# Altium integrated library A_Speciality.IntLib: 9 symbols
Pins are listed as number, name and electrical type; pins without a type are passive.

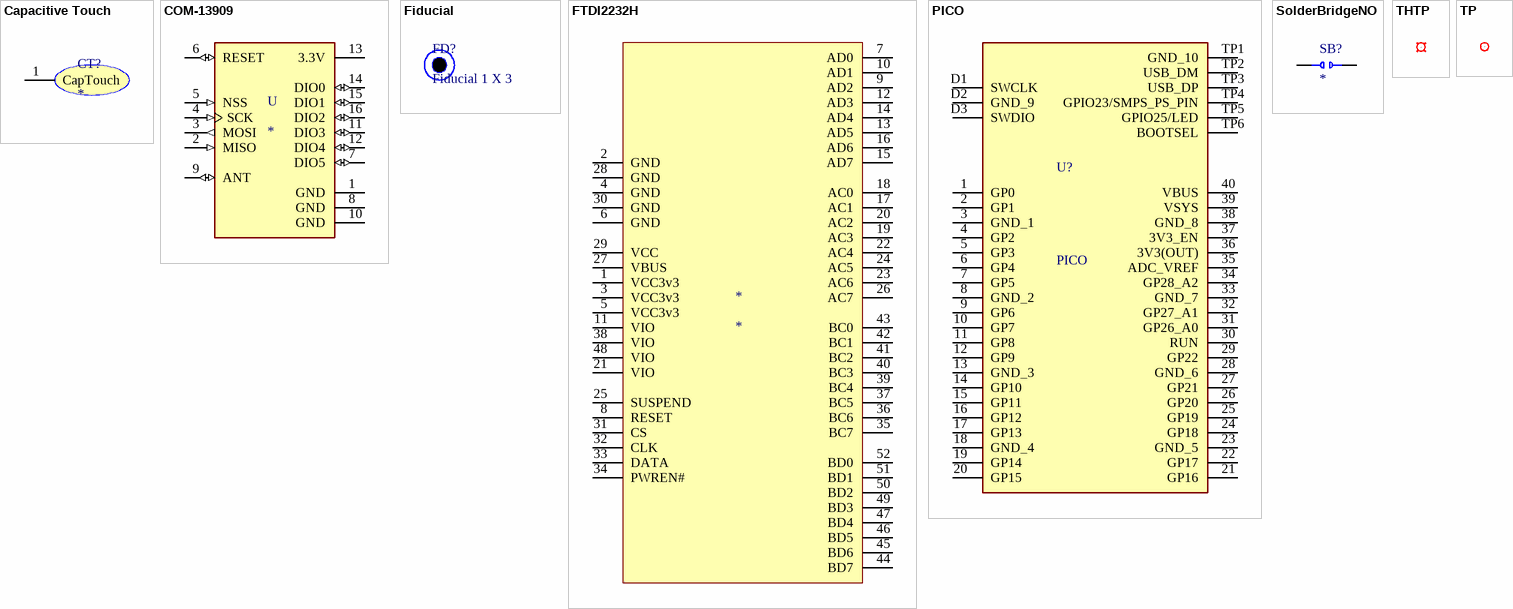
[diagram p0: symbols Capacitive Touch to TP]

## Capacitive Touch
designator CT?
footprint CapTouch
pins: 1 CapTouch

## COM-13909
designator U
General ISM < 1GHz Transceiver Module 915MHz Surface Mount; MP: COM-13909; MF: SparkFun Electronics; SnapEDA_Link: https://www.snapeda.com/parts/COM-13909/SparkFun%20Electronics/view-part/563412/?ref=snap; Package: Module SparkFun Electronics; Value: *; Digi-Key_Purchase_URL: https://www.digikey.com.tr/product-detail/en/sparkfun-electronics/COM-13909/1568-1394-ND/6023504?utm_source=snapeda&utm_medium=aggregator&utm_campaign=symbol; Digi-Key_Part_Number: 1568-1394-ND
footprint MOD_COM-13909
pins: 1 GND (power), 2 MISO (in), 3 MOSI (out), 4 SCK (in), 5 NSS (in), 6 RESET (io), 7 DIO5 (io), 8 GND (power), 9 ANT (io), 10 GND (power), 11 DIO3 (io), 12 DIO4 (io), 13 3.3V (power), 14 DIO0 (io), 15 DIO1 (io), 16 DIO2 (io)

## Fiducial
designator FD?, comment Fiducial 1 X 3
footprint Fiducial

## FTDI2232H
designator *
footprint FTDI2232H
pins: 1 VCC3v3, 2 GND, 3 VCC3v3, 4 GND, 5 VCC3v3, 6 GND, 7 AD0, 8 RESET, 9 AD2, 10 AD1, 11 VIO, 12 AD3, 13 AD5, 14 AD4, 15 AD7, 16 AD6, 17 AC1, 18 AC0, 19 AC3, 20 AC2, 21 VIO, 22 AC4, 23 AC6, 24 AC5, 25 SUSPEND, 26 AC7, 27 VBUS, 28 GND, 29 VCC, 30 GND, 31 CS, 32 CLK, 33 DATA, 34 PWREN#, 35 BC7, 36 BC6, 37 BC5, 38 VIO, 39 BC4, 40 BC3, 41 BC2, 42 BC1, 43 BC0, 44 BD7, 45 BD6, 46 BD5, 47 BD4, 48 VIO, 49 BD3, 50 BD2, 51 BD1, 52 BD0

## Logo
designator *  (value not drawn)
footprint ALogo

## PICO
designator U?
RP2040 microcontroller chip designed by Raspberry Pi in the United Kingdom 2  SPI, 2  I2C, 2  UART, 3  12-bit ADC, 16  controllable PWM channels; Manufacturer_Name: RASPBERRY-PI; Geometry.Height: 1mm; Manufacturer_Part_Number: PICO; Mouser Part Number: *; Mouser Price/Stock: *; Arrow Part Number: *; Arrow Price/Stock: *; Datasheet Link: https://datasheets.raspberrypi.org/pico/pico_datasheet.pdf
footprint PICO
pins: 1 GP0, 2 GP1, 3 GND_1, 4 GP2, 5 GP3, 6 GP4, 7 GP5, 8 GND_2, 9 GP6, 10 GP7, 11 GP8, 12 GP9, 13 GND_3, 14 GP10, 15 GP11, 16 GP12, 17 GP13, 18 GND_4, 19 GP14, 20 GP15, 21 GP16, 22 GP17, 23 GND_5, 24 GP18, 25 GP19, 26 GP20, 27 GP21, 28 GND_6, 29 GP22, 30 RUN, 31 GP26_A0, 32 GP27_A1, 33 GND_7, 34 GP28_A2, 35 ADC_VREF, 36 3V3(OUT), 37 3V3_EN, 38 GND_8, 39 VSYS, 40 VBUS, D1 SWCLK, D2 GND_9, D3 SWDIO, TP1 GND_10, TP2 USB_DM, TP3 USB_DP, TP4 GPIO23/SMPS_PS_PIN, TP5 GPIO25/LED, TP6 BOOTSEL

## SolderBridgeNO
designator SB?
footprint SBNOInline
pins: 1 A, 2 B

## THTP
designator TP?
footprint THTP
pins: 1

## TP
designator TP?
footprint TP
pins: 1